# Altium footprint library AD9689_210326.PcbLib: 22 footprints (part 2 of 2)
Each footprint in its own frame and in the unit in brackets; x right, y up, seen from the top. Pads: shape width x height; smd on the part's side, far side on the other; paste and mask are expansions set on the pad; w line width, h text height; cw(c..) or ccw(c..) is an arc to the next point about the centre after c.
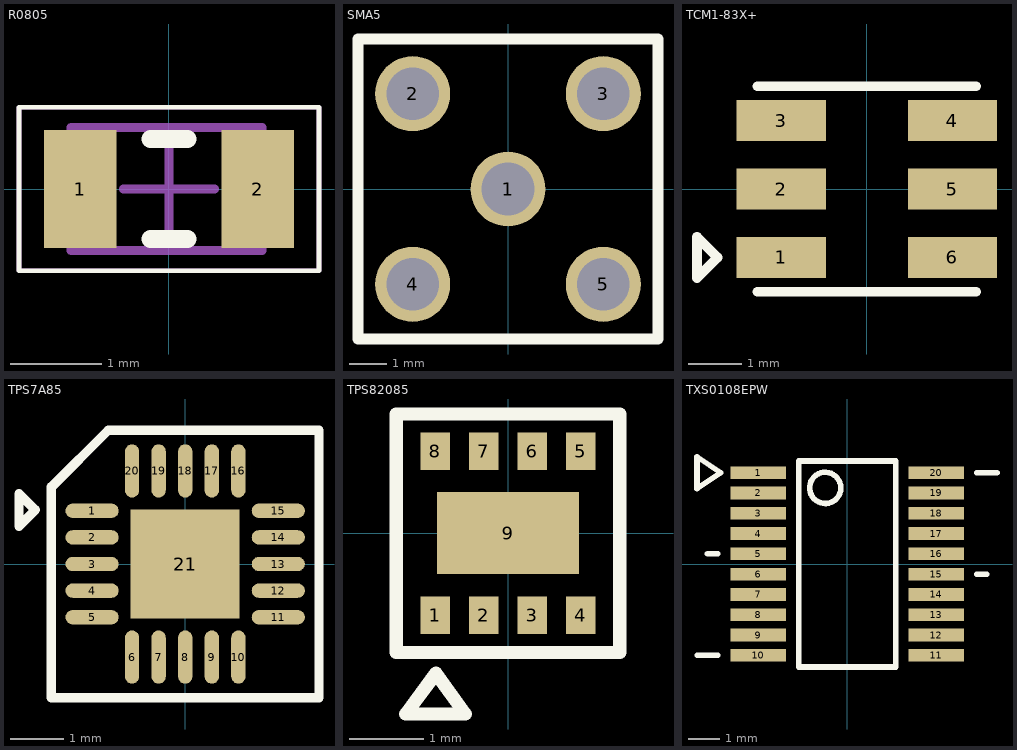
[diagram p1: the footprints below, top view; thin cyan lines are the x and y axes]

## R0805 [mm]
height 0.5
pads (2):
  rect 0.8x1.3 smd: 1(-0.975,0) 2(0.975,0)
Top Overlay:
  lines w0.05: -1.65,-0.9 -1.65,0.9 1.65,0.9 1.65,-0.9 -1.65,-0.9
  lines w0.2: -0.2,-0.55 0.2,-0.55 ; -0.2,0.55 0.2,0.55
Mechanical 13:
  lines w0.1: -1.075,-0.675 1.025,-0.675 1.025,0.675 -1.075,0.675 -1.075,-0.675
Mechanical 15:
  lines w0.05: -1.65,-0.9 -1.65,0.9 1.65,0.9 1.65,-0.9 -1.65,-0.9
  lines w0.1: -0.5,0 0.5,0 ; 0,-0.5 0,0.5
3D body "R0805.STEP": height 0.55, standoff 0, extent -1.025,-0.63 0.975,0.63

## SMA5 [mm]
pads (5):
  round 2 hole 1.4: 1(0,0) 2(-2.54,2.54) 3(2.54,2.54) 4(-2.54,-2.54) 5(2.54,-2.54)
Top Overlay:
  lines w0.305: -4,-4 -4,4 4,4 4,-4 -4,-4

## TCM1-83X+ [mil]
pads (6):
  rect 65x30 smd: 1(-62.5,-50) 2(-62.5,0) 3(-62.5,50) 4(62.5,50) 5(62.5,0) 6(62.5,-50)
Top Overlay:
  lines w7: -80,-75 80,-75 ; -80,75 80,75 ; -124,-65 -109,-50 -124,-35 -124,-65

## TPS7A85 [mm]
pads (21):
  oval 1x0.27 smd: 1(-1.75,1) 2(-1.75,0.5) 3(-1.75,0) 4(-1.75,-0.5) 5(-1.75,-1) 11(1.75,-1) 12(1.75,-0.5) 13(1.75,0) 14(1.75,0.5) 15(1.75,1)
  oval 0.27x1 smd: 6(-1,-1.75) 7(-0.5,-1.75) 8(0,-1.75) 9(0.5,-1.75) 10(1,-1.75) 16(1,1.75) 17(0.5,1.75) 18(0,1.75) 19(-0.5,1.75) 20(-1,1.75)
  rect 2.05x2.05 smd: 21(0,0)
Top Overlay:
  lines w0.178: -3.124,0.711 -2.819,1.016 -3.124,1.321 -3.124,0.711 ; -2.515,-2.515 2.515,-2.515 2.515,2.515 -1.448,2.515 -2.515,1.448 -2.515,-2.515

## TPS82085 [mm]
pads (9):
  rect 0.4x0.5 smd: 1(-0.975,-1.1) 2(-0.325,-1.1) 3(0.325,-1.1) 4(0.975,-1.1) 5(0.975,1.1) 6(0.325,1.1) 7(-0.325,1.1) 8(-0.975,1.1)
  rect 1.9x1.1 smd: 9(0,0)
Top Overlay:
  lines w0.178: -1.5,-1.6 -1.5,1.6 1.5,1.6 1.5,-1.6 -1.5,-1.6 ; -1.373,-2.426 -0.965,-1.88 -0.573,-2.426 -1.373,-2.426

## TXS0108EPW [mm]
pads (20):
  rect 1.778x0.406 smd: 1(-2.85,2.925) 2(-2.85,2.275) 3(-2.85,1.625) 4(-2.85,0.975) 5(-2.85,0.325) 6(-2.85,-0.325) 7(-2.85,-0.975) 8(-2.85,-1.625) 9(-2.85,-2.275) 10(-2.85,-2.925) 11(2.85,-2.925) 12(2.85,-2.275) 13(2.85,-1.625) 14(2.85,-0.975) 15(2.85,-0.325) 16(2.85,0.325) 17(2.85,0.975) 18(2.85,1.625) 19(2.85,2.275) 20(2.85,2.925)
Top Overlay:
  circle w0.178: c-0.703,2.438 r0.5
  lines w0.178: -4.8,-2.925 -4.15,-2.925 ; -4.475,0.325 -4.15,0.325 ; 4.15,-0.325 4.475,-0.325 ; 4.15,2.925 4.8,2.925 ; -4.812,2.417 -4.812,3.433 -4.05,2.925 -4.812,2.417 ; -1.55,-3.3 1.55,-3.3 1.55,3.3 -1.55,3.3 -1.55,-3.3